# Altium schematic symbol library MAX232Lib.SchLib: 9 symbols
Pins are listed as number, name and electrical type; pins without a type are passive.

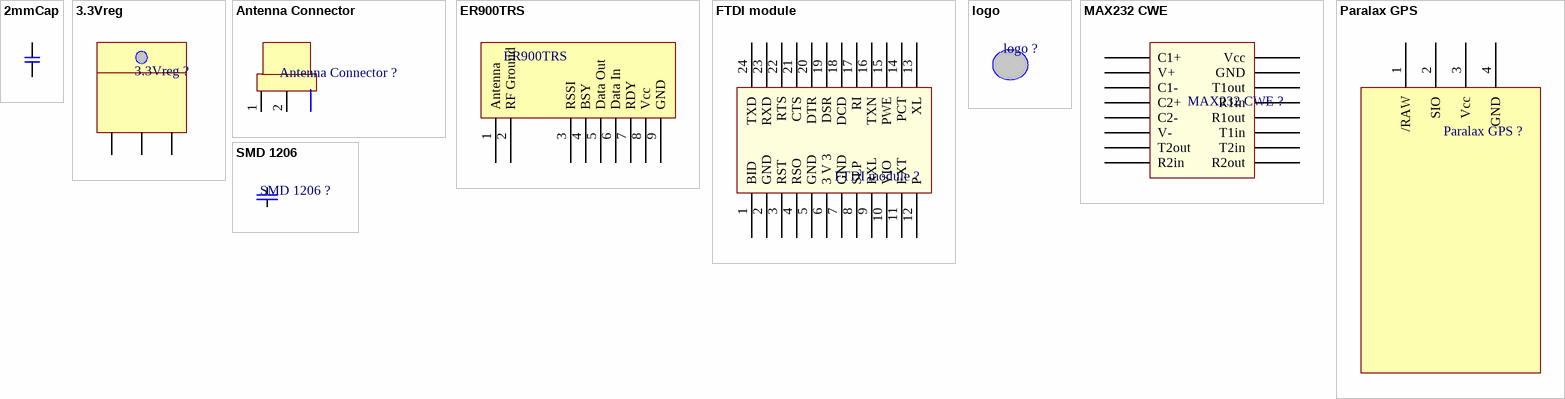
[diagram p0: symbols 2mmCap to SMD 1206]

## 2mmCap
designator 2mmCap ?  (value not drawn)
pins: 1, 2

## 3.3Vreg
designator 3.3Vreg ?  (value not drawn)
3.3Vreg (LD1085V33)
pins: 1, 2, 3

## Antenna Connector
designator Antenna Connector ?  (value not drawn)
pins: 1, 2

## ER900TRS
designator ER900TRS, comment Easy Radio 900MHz  (value not drawn)
pins: 1 Antenna, 2 RF Ground, 3 RSSI, 4 BSY, 5 Data Out, 6 Data In, 7 RDY, 8 Vcc, 9 GND

## FTDI module
designator FTDI module ?  (value not drawn)
pins: 1 BID, 2 GND, 3 RST, 4 RSO, 5 GND, 6 3 V 3, 7 GND, 8 SLP, 9 RXL, 10 VIO, 11 EXT, 12 P, 13 XL, 14 PCT, 15 PWE, 16 TXN, 17 RI, 18 DCD, 19 DSR, 20 DTR, 21 CTS, 22 RTS, 23 RXD, 24 TXD

## logo
designator logo ?  (value not drawn)

## MAX232 CWE
designator MAX232 CWE ?  (value not drawn)
pins: 1 C1+, 2 V+, 3 C1-, 4 C2+, 5 C2-, 6 V-, 7 T2out, 8 R2in, 9 R2out, 10 T2in, 11 T1in, 12 R1out, 13 R1in, 14 T1out, 15 GND, 16 Vcc

## Paralax GPS
designator Paralax GPS ?  (value not drawn)
pins: 1 /RAW, 2 SIO, 3 Vcc, 4 GND

## SMD 1206
designator SMD 1206 ?  (value not drawn)
SMD 1206 Package Type
pins: 1, 2